# EAGLE library part SIB452DK-T1-GE3 (library dragino)
N-Channel Enhancement MOSFET 80V; 2A; 3,0Ohm
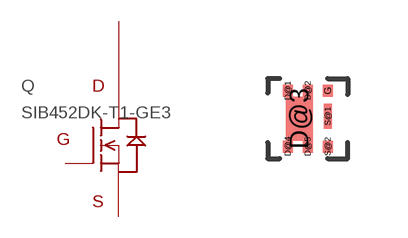
[diagram p23: symbol with the pads of SC-75; footprint SC-75]

Designator prefix Q

## SIB452DK-T1-GE3  [SC-75]
D@1  D
D@2  D  pas
D@3  D
D@4  D
D@5  D
G  G  pas
S@1  S  pas
S@2  S

## Footprint SC-75 (pad centres in mm)
smd 0.25 x 0.3: D@1 -0.5,0.7; D@2 0,0.7; D@4 -0.5,-0.7; D@5 0,-0.7; G 0.5,0.7; S@2 0.5,-0.7
smd 0.67 x 1.1: D@3 -0.21,0
smd 0.2 x 0.62: S@1 0.5,0.06